# Altium footprint library 7621_cmp.PcbLib: 33 footprints (part 1 of 3)
Each footprint in its own frame and in the unit in brackets; x right, y up, seen from the top. Pads: shape width x height; smd on the part's side, far side on the other; paste and mask are expansions set on the pad; w line width, h text height; cw(c..) or ccw(c..) is an arc to the next point about the centre after c.
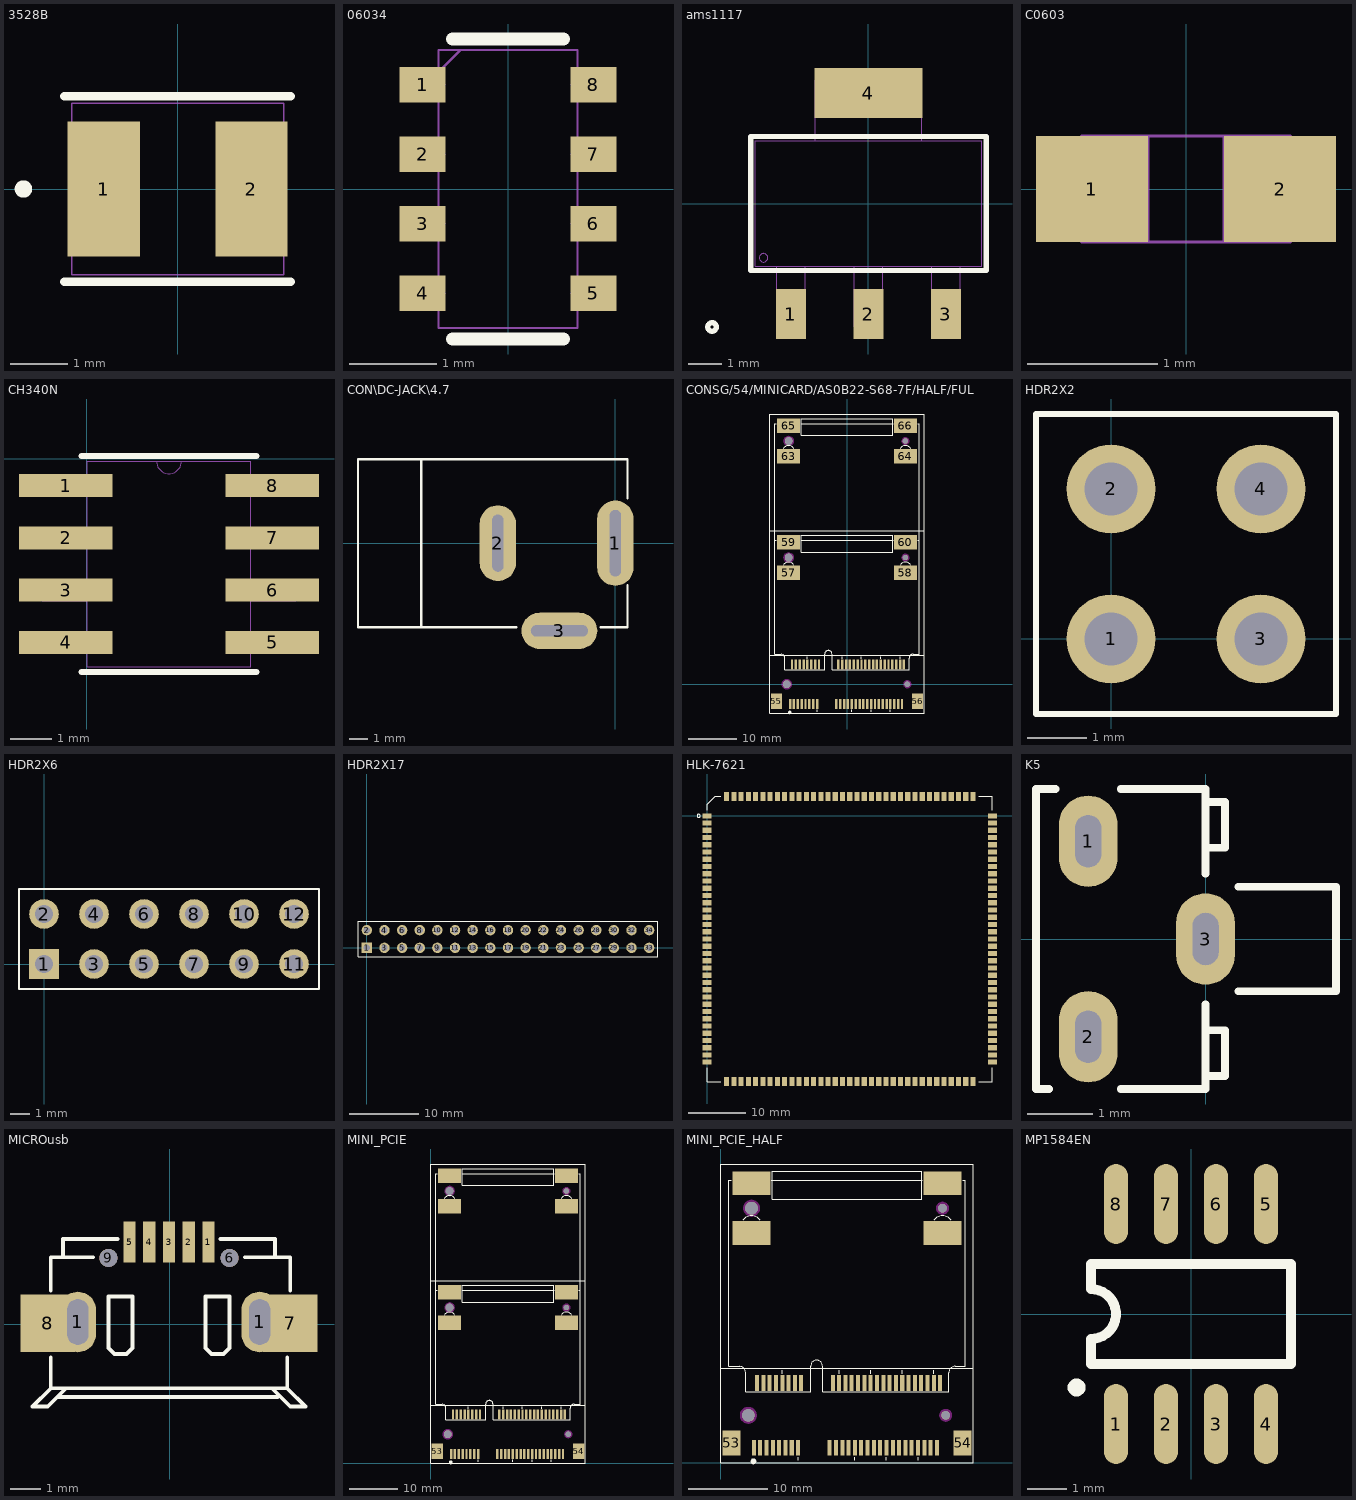
[diagram p0: the footprints below, top view; thin cyan lines are the x and y axes]

## 3528B [mm]
pads (2):
  rect 1.262x2.363 smd paste+0 mask+0: 1(-1.293,0) 2(1.293,0)
Top Overlay:
  circle w0.152: c-2.7,0 r0.076
  lines w0.152: -1.981,-1.626 1.981,-1.626 ; -1.981,1.626 1.981,1.626
Mechanical 13:
  circle w0: c-1.6,0 r0.076
  lines w0.025: -1.854,-1.499 1.854,-1.499 1.854,1.499 -1.854,1.499 -1.854,-1.499
3D body: height 0.25, standoff 0, extent 0,0 0.254,0.254

## 06034 [mm]
pads (8):
  rect 0.532x0.408 smd paste+0 mask+0: 1(-0.984,1.2) 2(-0.984,0.4) 3(-0.984,-0.4) 4(-0.984,-1.2) 5(0.984,-1.2) 6(0.984,-0.4) 7(0.984,0.4) 8(0.984,1.2)
Top Overlay:
  lines w0.152: -0.639,-1.727 0.639,-1.727 ; -0.639,1.727 0.639,1.727
Mechanical 13:
  lines w0: -0.8,-1.276 ccw(c-0.8,-1.2) -0.8,-1.124 ; -0.8,-0.476 ccw(c-0.8,-0.4) -0.8,-0.324 ; -0.8,0.324 ccw(c-0.8,0.4) -0.8,0.476 ; -0.8,1.124 ccw(c-0.8,1.2) -0.8,1.276 ; 0.8,-1.276 cw(c0.8,-1.2) 0.8,-1.124 ; 0.8,-0.476 cw(c0.8,-0.4) 0.8,-0.324 ; 0.8,0.324 cw(c0.8,0.4) 0.8,0.476 ; 0.8,1.124 cw(c0.8,1.2) 0.8,1.276
  lines w0.025: -0.8,-1.276 -0.8,-1.6 0.8,-1.6 0.8,-1.276 ; -0.8,-1.124 -0.8,-0.476 ; -0.8,-0.324 -0.8,0.324 ; -0.8,0.476 -0.8,1.124 ; -0.8,1.276 -0.8,1.6 0.8,1.6 0.8,1.276 ; -0.8,1.346 -0.546,1.6 ; 0.8,-1.124 0.8,-0.476 ; 0.8,-0.324 0.8,0.324 ; 0.8,0.476 0.8,1.124
3D body: height 0.25, standoff 0, extent 0,0 0.254,0.254

## ams1117 [mil]
pads (4):
  rect 35x58 smd paste+0 mask+0: 1(-90.16,-128.5) 2(0,-128.5) 3(90.16,-128.5)
  rect 126x58 smd paste+0 mask+0: 4(0,128.5)
Top Overlay:
  circle w6: c-182,-143.5 r5
  lines w6: -137,-78 -137,78 137,78 137,-78 -137,-78
Mechanical 13:
  circle w0: c-122,-63 r5
  lines w1: -132,-73 -132,73 132,73 132,-73 -132,-73 ; -106.66,-143.5 -73.66,-143.5 -73.66,-73 -106.66,-73 -106.66,-143.5 ; -62,73 -62,143.5 62,143.5 62,73 -62,73 ; -16.5,-143.5 16.5,-143.5 16.5,-73 -16.5,-73 -16.5,-143.5 ; 73.66,-143.5 106.66,-143.5 106.66,-73 73.66,-73 73.66,-143.5
3D body: height 10, standoff 0, extent 0,0 10,10

## C0603 [mil]
pads (2):
  rect 33.78x32 smd paste+0 mask+0: 1(-28.39,0) 2(28.39,0)
Mechanical 13:
  circle w0: c-23.39,0 r3
  lines w1: -31.5,-16 -31.5,16 ; -31.5,-16 31.5,-16 ; -31.5,-16 -11.5,-16 -11.5,16 -31.5,16 ; -31.5,-16 -31.5,16 ; -31.5,16 31.5,16 ; 31.5,-16 31.5,16 ; 31.5,-16 31.5,16 ; 31.5,-16 11.5,-16 11.5,16 31.5,16
3D body: height 10, standoff 0, extent 0,0 10,10

## CH340N [mm]
pads (8):
  rect 2.27x0.558 smd paste+0 mask+0: 1(-0.516,-0.66) 2(-0.516,-1.93) 3(-0.516,-3.2) 4(-0.516,-4.47) 5(4.512,-4.47) 6(4.512,-3.2) 7(4.512,-1.93) 8(4.512,-0.66)
Top Overlay:
  lines w0.152: -0.123,-5.194 4.119,-5.194 ; -0.123,0.064 4.119,0.064
Mechanical 13:
  lines w0: 1.693,-0.063 ccw(c1.998,-0.063) 2.303,-0.063
  lines w0.025: -1.101,-4.724 0.004,-4.724 0.004,-4.216 -1.101,-4.216 -1.101,-4.724 ; -1.101,-3.454 0.004,-3.454 0.004,-2.946 -1.101,-2.946 -1.101,-3.454 ; -1.101,-2.184 0.004,-2.184 0.004,-1.676 -1.101,-1.676 -1.101,-2.184 ; -1.101,-0.914 0.004,-0.914 0.004,-0.406 -1.101,-0.406 -1.101,-0.914 ; 0.004,-5.067 0.004,-0.063 3.992,-0.063 3.992,-5.067 0.004,-5.067 ; 3.992,-4.724 5.097,-4.724 5.097,-4.216 3.992,-4.216 3.992,-4.724 ; 3.992,-3.454 5.097,-3.454 5.097,-2.946 3.992,-2.946 3.992,-3.454 ; 3.992,-2.184 5.097,-2.184 5.097,-1.676 3.992,-1.676 3.992,-2.184 ; 3.992,-0.914 5.097,-0.914 5.097,-0.406 3.992,-0.406 3.992,-0.914
3D body: height 0.25, standoff 0, extent 1.998,-2.565 2.252,-2.311

## CON\DC-JACK\4.7 [mm]
pads (3):
  oval 1.956x4.572 hole 0.6 slot 3.556 at 90 deg: 1(0,0)
  oval 1.956x4.064 hole 0.6 slot 3.048 at 90 deg: 2(-6.3,0)
  oval 4.064x1.956 hole 0.6 slot 3.048 at 0 deg: 3(-3,-4.7)
Top Overlay:
  lines w0.127: -10.4,-4.5 -10.4,4.5 ; -5.3,-4.5 -13.8,-4.5 -13.8,4.5 0.65,4.5 0.65,2.4 ; -0.8,-4.5 0.65,-4.5 0.65,-2.25

## CONSG/54/MINICARD/AS0B22-S68-7F/HALF/FUL [mm]
pads (68):
  rect 0.508x2 smd: 1(-11.8,-4.1) 2(-11.4,4.1) 3(-11,-4.1) 4(-10.6,4.1) 5(-10.2,-4.1) 6(-9.8,4.1) 7(-9.4,-4.1) 8(-9,4.1) 9(-8.6,-4.1) 10(-8.2,4.1) 11(-7.8,-4.1) 12(-7.4,4.1) 13(-7,-4.1) 14(-6.6,4.1) 15(-6.2,-4.1) 16(-5.8,4.1) 17(-2.2,-4.1) 18(-1.8,4.1) 19(-1.4,-4.1) 20(-1,4.1) 21(-0.6,-4.1) 22(-0.2,4.1) 23(0.2,-4.1) 24(0.6,4.1) 25(1,-4.1) 26(1.4,4.1) 27(1.8,-4.1) 28(2.2,4.1) 29(2.6,-4.1) 30(3,4.1) 31(3.4,-4.1) 32(3.8,4.1) 33(4.2,-4.1) 34(4.6,4.1) 35(5,-4.1) 36(5.4,4.1) 37(5.8,-4.1) 38(6.2,4.1) 39(6.6,-4.1) 40(7,4.1) 41(7.4,-4.1) 42(7.8,4.1) 43(8.2,-4.1) 44(8.6,4.1) 45(9,-4.1) 46(9.4,4.1) 47(9.8,-4.1) 48(10.2,4.1) 49(10.6,-4.1) 50(11,4.1) 51(11.4,-4.1) 52(11.8,4.1)
  round 1.6 hole 1.6 unplated: 53(-12.5,0) 61(-12.1,26.25) 67(-12.1,50.4)
  round 1.1 hole 1.1 unplated: 54(12.5,0) 62(12.1,26.25) 68(12.1,50.4)
  rect 2.3x3.2 smd: 55(-14.65,-3.5) 56(14.65,-3.5)
  rect 4.8x3 smd: 57(-12.1,23.1) 58(12.1,23.1) 59(-12.1,29.4) 60(12.1,29.4) 63(-12.1,47.25) 64(12.1,47.25) 65(-12.1,53.55) 66(12.1,53.55)
Top Overlay:
  region: -11.51,-5.817 -11.536,-5.682 -11.613,-5.568 -11.727,-5.491 -11.862,-5.464 -11.997,-5.491 -12.111,-5.568 -12.187,-5.682 -12.214,-5.817 -12.187,-5.951 -12.111,-6.066 -11.997,-6.142 -11.862,-6.169 -11.727,-6.142 -11.613,-6.066 -11.536,-5.951
  lines w0.127: -14.65,29.8 -15,29.8 -15,6.2 ; -14.65,53.95 -15,53.95 -15,6.2 ; -13.2,24.7 cw(c-12.1,23.992) -11,24.7 ; -13.2,48.85 cw(c-12.1,48.142) -11,48.85 ; -9.6,29.8 9.55,29.8 ; -9.6,53.95 9.55,53.95 ; -8.2,5.3 -8.2,5.7 ; -6.2,-5.7 -6.2,-5.3 ; -1,5.3 -1,5.7 ; 1,-5.7 1,-5.3 ; 3,5.3 3,5.7 ; 5,-5.7 5,-5.3 ; 7,5.3 7,5.7 ; 9,-5.7 9,-5.3 ; 11,5.3 11,5.7 ; 11,24.7 cw(c12.1,23.992) 13.2,24.7 ; 11,48.85 cw(c12.1,48.142) 13.2,48.85 ; 14.65,29.8 15,29.8 15,6.2 ; 14.65,53.95 15,53.95 15,6.2 ; -16,-6 -16,6 ; -16,-6 16,-6 ; -16,-6 -16,56 16,56 16,-6 ; -16,-6 16,-6 ; -16,-6 -16,31.85 16,31.85 16,-6 ; -16,-6 16,-6 ; -16,-6 -16,6 ; -16,-6 16,-6 ; -16,6 16,6 ; -16,6 16,6 ; -15,6.2 -13.61,6.2 ; -15,6.2 -13.61,6.2 ; -13.611,6.2 cw(c-13.637,5.413) -12.85,5.45 ; -13.611,6.2 cw(c-13.637,5.413) -12.85,5.45 ; -12.85,3 -4.6,3 ; -12.85,3 -12.85,5.45 ; -12.85,3 -4.6,3 ; -12.85,3 -12.85,5.45 ; -4.6,3 -4.6,6.25 ; -4.6,3 -4.6,6.25 ; -4.6,6.25 cw(c-3.85,6.25) -3.1,6.25 ; -4.6,6.25 cw(c-3.85,6.25) -3.1,6.25 ; -3.1,3 12.9,3 ; -3.1,3 -3.1,6.25 ; -3.1,3 12.9,3 ; -3.1,3 -3.1,6.25 ; 12.9,3 12.9,5.4 ; 12.9,3 12.9,5.4 ; 12.9,5.4 cw(c13.669,5.432) 13.71,6.2 ; 12.9,5.4 cw(c13.669,5.432) 13.71,6.2 ; 13.71,6.2 15,6.2 ; 13.71,6.2 15,6.2 ; 16,-6 16,6 ; 16,-6 16,6 ; -9.5,27.4 -9.5,30.9 9.5,30.9 9.5,27.4 -9.5,27.4 ; -9.5,51.55 -9.5,55.05 9.5,55.05 9.5,51.55 -9.5,51.55
Keep-Out Layer:
  drawing of 6 lines, arcs and shapes, not listed

## HDR2X2 [mm] "Connector; Header; 2x2 Position"
height 1
pads (4):
  round 1.5 hole 0.9: 1(0,0) 2(0,2.54) 3(2.54,0) 4(2.54,2.54)
Top Overlay:
  lines w0.1: -1.27,-1.27 -1.27,3.81 3.81,3.81 3.81,-1.27 -1.27,-1.27

## HDR2X6 [mm] "Connector; Header; 6x2 Position"
pads (12):
  rect 1.5x1.5 hole 0.9: 1(0,0)
  round 1.5 hole 0.9: 2(0,2.54) 3(2.54,0) 4(2.54,2.54) 5(5.08,0) 6(5.08,2.54) 7(7.62,0) 8(7.62,2.54) 9(10.16,0) 10(10.16,2.54) 11(12.7,0) 12(12.7,2.54)
Top Overlay:
  lines w0.1: -1.27,-1.27 -1.27,3.81 13.97,3.81 13.97,-1.27 -1.27,-1.27

## HDR2X17 [mm] "Connector; Header; 17x2 Position"
height 1
pads (34):
  rect 1.5x1.5 hole 0.9: 1(0,0)
  round 1.5 hole 0.9: 2(0,2.54) 3(2.54,0) 4(2.54,2.54) 5(5.08,0) 6(5.08,2.54) 7(7.62,0) 8(7.62,2.54) 9(10.16,0) 10(10.16,2.54) 11(12.7,0) 12(12.7,2.54) 13(15.24,0) 14(15.24,2.54) 15(17.78,0) 16(17.78,2.54) 17(20.32,0) 18(20.32,2.54) 19(22.86,0) 20(22.86,2.54) 21(25.4,0) 22(25.4,2.54) 23(27.94,0) 24(27.94,2.54) 25(30.48,0) 26(30.48,2.54) 27(33.02,0) 28(33.02,2.54) 29(35.56,0) 30(35.56,2.54) 31(38.1,0) 32(38.1,2.54) 33(40.64,0) 34(40.64,2.54)
Top Overlay:
  lines w0.1: -1.27,-1.27 -1.27,3.81 41.91,3.81 41.91,-1.27 -1.27,-1.27

## HLK-7621 [mm]
height 1
pads (141):
  rect 1.6x0.9 smd: 1(0,0) 2(0,-1.27) 3(0,-2.54) 4(0,-3.81) 5(0,-5.08) 6(0,-6.35) 7(0,-7.62) 8(0,-8.89) 9(0,-10.16) 10(0,-11.43) 11(0,-12.7) 12(0,-13.97) 13(0,-15.24) 14(0,-16.51) 15(0,-17.78) 16(0,-19.05) 17(0,-20.32) 18(0,-21.59) 19(0,-22.86) 20(0,-24.13) 21(0,-25.4) 22(0,-26.67) 23(0,-27.94) 24(0,-29.21) 25(0,-30.48) 26(0,-31.75) 27(0,-33.02) 28(0,-34.29) 29(0,-35.56) 30(0,-36.83) 31(0,-38.1) 32(0,-39.37) 33(0,-40.64) 34(0,-41.91) 35(0,-43.18) 71(50,-43.18) 72(50,-41.91) 73(50,-40.64) 74(50,-39.37) 75(50,-38.1) 76(50,-36.83) 77(50,-35.56) 78(50,-34.29) 79(50,-33.02) 80(50,-31.75) 81(50,-30.48) 82(50,-29.21) 83(50,-27.94) 84(50,-26.67) 85(50,-25.4) 86(50,-24.13) 87(50,-22.86) 88(50,-21.59) 89(50,-20.32) 90(50,-19.05) 91(50,-17.78) 92(50,-16.51) 93(50,-15.24) 94(50,-13.97) 95(50,-12.7) 96(50,-11.43) 97(50,-10.16) 98(50,-8.89) 99(50,-7.62) 100(50,-6.35) 101(50,-5.08) 102(50,-3.81) 103(50,-2.54) 104(50,-1.27) 105(50,0)
  rect 0.9x1.6 smd: 36(3.41,-46.59) 37(4.68,-46.59) 38(5.95,-46.59) 39(7.22,-46.59) 40(8.49,-46.59) 41(9.76,-46.59) 42(11.03,-46.59) 43(12.3,-46.59) 44(13.57,-46.59) 45(14.84,-46.59) 46(16.11,-46.59) 47(17.38,-46.59) 48(18.65,-46.59) 49(19.92,-46.59) 50(21.19,-46.59) 51(22.46,-46.59) 52(23.73,-46.59) 53(25,-46.59) 54(26.27,-46.59) 55(27.54,-46.59) 56(28.81,-46.59) 56(28.81,-46.59) 57(30.08,-46.59) 58(31.35,-46.59) 59(32.62,-46.59) 60(33.89,-46.59) 61(35.16,-46.59) 62(36.43,-46.59) 63(37.7,-46.59) 64(38.97,-46.59) 65(40.24,-46.59) 66(41.51,-46.59) 67(42.78,-46.59) 68(44.05,-46.59) 69(45.32,-46.59) 70(46.59,-46.59) 106(46.59,3.41) 107(45.32,3.41) 108(44.05,3.41) 109(42.78,3.41) 110(41.51,3.41) 111(40.24,3.41) 112(38.97,3.41) 113(37.7,3.41) 114(36.43,3.41) 115(35.16,3.41) 116(33.89,3.41) 117(32.62,3.41) 118(31.35,3.41) 119(30.08,3.41) 120(28.81,3.41) 121(27.54,3.41) 122(26.27,3.41) 123(25,3.41) 124(23.73,3.41) 125(22.46,3.41) 126(21.19,3.41) 127(19.92,3.41) 128(18.65,3.41) 129(17.38,3.41) 130(16.11,3.41) 131(14.84,3.41) 132(13.57,3.41) 133(12.3,3.41) 134(11.03,3.41) 135(9.76,3.41) 136(8.49,3.41) 137(7.22,3.41) 138(5.95,3.41) 139(4.68,3.41) 140(3.41,3.41)
Top Overlay:
  circle w0.15: c-1.5,0 r0.283
  lines w0.15: 0,-44.18 0,-46.59 2.41,-46.59 ; 0,1 0,2 1.41,3.41 2.41,3.41 ; 47.59,-46.59 50,-46.59 50,-44.18 ; 47.59,3.41 50,3.41 50,1

## K5 [mm]
pads (3):
  oval 0.9x1.4 hole 0.4 slot 0.8 at 90 deg: 1(-1.8,1.5) 2(-1.8,-1.5) 3(0,0)
Top Overlay:
  lines w0.12: -2.4,-2.3 -2.6,-2.3 -2.6,2.3 -2.3,2.3 ; -1.3,-2.3 0,-2.3 0,-1 ; -1.3,2.3 0,2.3 0,1 ; 0,-2.1 0.3,-2.1 0.3,-1.4 0,-1.4 ; 0,1.4 0.3,1.4 0.3,2.1 0,2.1 ; 0.5,-0.8 2,-0.8 2,0.8 0.5,0.8

## MICROusb [mm]
pads (11):
  oval 1.2x2 hole 0.7 slot 1.5 at 90 deg: 1(-3.028,0.081) 1(2.972,0.081)
  rect 0.4x1.35 smd: 1(1.28,2.719) 2(0.63,2.719) 3(-0.02,2.719) 4(-0.67,2.719) 5(-1.32,2.719)
  round 0.6 hole 0.6: 6(1.98,2.194) 9(-2.02,2.194)
  rect 1.8x1.9 smd: 7(3.98,0.044) 8(-4.02,0.044)
Top Overlay:
  lines w0.127: -3.92,-1.081 -3.92,-2.106 ; -3.92,1.119 -3.92,2.219 -2.52,2.219 ; -3.704,-2.391 3.571,-2.391 ; -3.52,2.219 -3.52,2.819 -1.72,2.819 ; -3.42,-2.106 -4.02,-2.706 -4.52,-2.706 -3.92,-2.106 ; 1.68,2.819 3.48,2.819 3.48,2.219 ; 2.48,2.219 3.98,2.219 3.98,1.119 ; 3.38,-2.106 3.98,-2.706 4.48,-2.706 3.88,-2.106 ; 3.88,-1.081 3.88,-2.106 ; -3.92,-2.106 3.88,-2.106 ; -2.02,-0.781 -1.82,-0.981 -1.42,-0.981 -1.22,-0.781 -1.22,0.919 -2.02,0.919 -2.02,-0.781 ; 1.18,-0.781 1.18,0.919 1.98,0.919 1.98,-0.781 1.78,-0.981 1.38,-0.981 1.18,-0.781

## MINI_PCIE [mm]
pads (68):
  rect 0.508x2 smd: 1(4.2,1.9) 2(4.6,10.1) 3(5,1.9) 4(5.4,10.1) 5(5.8,1.9) 6(6.2,10.1) 7(6.6,1.9) 8(7,10.1) 9(7.4,1.9) 10(7.8,10.1) 11(8.2,1.9) 12(8.6,10.1) 13(9,1.9) 14(9.4,10.1) 15(9.8,1.9) 16(10.2,10.1) 17(13.8,1.9) 18(14.2,10.1) 19(14.6,1.9) 20(15,10.1) 21(15.4,1.9) 22(15.8,10.1) 23(16.2,1.9) 24(16.6,10.1) 25(17,1.9) 26(17.4,10.1) 27(17.8,1.9) 28(18.2,10.1) 29(18.6,1.9) 30(19,10.1) 31(19.4,1.9) 32(19.8,10.1) 33(20.2,1.9) 34(20.6,10.1) 35(21,1.9) 36(21.4,10.1) 37(21.8,1.9) 38(22.2,10.1) 39(22.6,1.9) 40(23,10.1) 41(23.4,1.9) 42(23.8,10.1) 43(24.2,1.9) 44(24.6,10.1) 45(25,1.9) 46(25.4,10.1) 47(25.8,1.9) 48(26.2,10.1) 49(26.6,1.9) 50(27,10.1) 51(27.4,1.9) 52(27.8,10.1)
  rect 2.3x3.2 smd: 53(1.35,2.5) 54(30.65,2.5)
  round 1.6 hole 1.6 unplated: ""(3.5,6) ""(3.9,32.25) ""(3.9,56.4)
  rect 4.8x3 smd: ""(3.9,29.1) ""(3.9,35.4) ""(3.9,53.25) ""(3.9,59.55) ""(28.1,29.1) ""(28.1,35.4) ""(28.1,53.25) ""(28.1,59.55)
  round 1.1 hole 1.1 unplated: ""(28.1,32.25) ""(28.1,56.4) ""(28.5,6)
Top Overlay:
  region: 4.484,0.183 4.484,0.252 4.431,0.379 4.334,0.476 4.207,0.529 4.138,0.529 4.069,0.529 3.943,0.476 3.845,0.379 3.793,0.252 3.793,0.183 3.793,0.115 3.845,-0.012 3.943,-0.109 4.069,-0.162 4.138,-0.162 4.207,-0.162 4.334,-0.109 4.431,-0.012 4.484,0.115
  lines w0.127: 1.35,35.8 1,35.8 1,12.2 ; 1.35,59.95 1,59.95 1,12.2 ; 2.8,30.7 cw(c3.9,29.992) 5,30.7 ; 2.8,54.85 cw(c3.9,54.142) 5,54.85 ; 6.4,35.8 25.55,35.8 ; 6.4,59.95 25.55,59.95 ; 7.8,11.3 7.8,11.7 ; 9.8,0.3 9.8,0.7 ; 15,11.3 15,11.7 ; 17,0.3 17,0.7 ; 19,11.3 19,11.7 ; 21,0.3 21,0.7 ; 23,11.3 23,11.7 ; 25,0.3 25,0.7 ; 27,11.3 27,11.7 ; 27,30.7 cw(c28.1,29.992) 29.2,30.7 ; 27,54.85 cw(c28.1,54.142) 29.2,54.85 ; 30.65,35.8 31,35.8 31,12.2 ; 30.65,59.95 31,59.95 31,12.2 ; 0,0 32,0 ; 0,0 0,12 ; 0,0 32,0 ; 0,0 0,37.85 32,37.85 32,0 ; 0,0 32,0 ; 0,0 0,62 32,62 32,0 ; 0,0 32,0 ; 0,0 0,12 ; 0,12 32,12 ; 0,12 32,12 ; 1,12.2 2.39,12.2 1,12.2 ; 3.15,9 3.15,11.45 ; 3.15,9 11.4,9 ; 3.15,9 3.15,11.45 ; 3.15,9 11.4,9 ; 3.15,11.45 ccw(c2.363,11.413) 2.389,12.2 cw(c2.363,11.413) 3.15,11.45 ; 11.4,9 11.4,12.25 ; 11.4,9 11.4,12.25 ; 11.4,12.25 cw(c12.15,12.25) 12.9,12.25 ; 11.4,12.25 cw(c12.15,12.25) 12.9,12.25 ; 12.9,9 12.9,12.25 ; 12.9,9 28.9,9 ; 12.9,9 12.9,12.25 ; 12.9,9 28.9,9 ; 28.9,9 28.9,11.4 ; 28.9,9 28.9,11.4 ; 28.9,11.4 cw(c29.669,11.432) 29.71,12.2 ; 28.9,11.4 cw(c29.669,11.432) 29.71,12.2 ; 29.71,12.2 31,12.2 ; 29.71,12.2 31,12.2 ; 32,0 32,12 ; 32,0 32,12 ; 6.5,33.4 25.5,33.4 25.5,36.9 6.5,36.9 6.5,33.4 ; 6.5,57.55 25.5,57.55 25.5,61.05 6.5,61.05 6.5,57.55
Keep-Out Layer:
  drawing of 6 lines, arcs and shapes, not listed

## MINI_PCIE_HALF [mm]
pads (62):
  rect 0.508x2 smd: 1(4.2,1.9) 2(4.6,10.1) 3(5,1.9) 4(5.4,10.1) 5(5.8,1.9) 6(6.2,10.1) 7(6.6,1.9) 8(7,10.1) 9(7.4,1.9) 10(7.8,10.1) 11(8.2,1.9) 12(8.6,10.1) 13(9,1.9) 14(9.4,10.1) 15(9.8,1.9) 16(10.2,10.1) 17(13.8,1.9) 18(14.2,10.1) 19(14.6,1.9) 20(15,10.1) 21(15.4,1.9) 22(15.8,10.1) 23(16.2,1.9) 24(16.6,10.1) 25(17,1.9) 26(17.4,10.1) 27(17.8,1.9) 28(18.2,10.1) 29(18.6,1.9) 30(19,10.1) 31(19.4,1.9) 32(19.8,10.1) 33(20.2,1.9) 34(20.6,10.1) 35(21,1.9) 36(21.4,10.1) 37(21.8,1.9) 38(22.2,10.1) 39(22.6,1.9) 40(23,10.1) 41(23.4,1.9) 42(23.8,10.1) 43(24.2,1.9) 44(24.6,10.1) 45(25,1.9) 46(25.4,10.1) 47(25.8,1.9) 48(26.2,10.1) 49(26.6,1.9) 50(27,10.1) 51(27.4,1.9) 52(27.8,10.1)
  rect 2.3x3.2 smd: 53(1.35,2.5) 54(30.65,2.5)
  round 1.6 hole 1.6 unplated: ""(3.5,6) ""(3.9,32.25)
  rect 4.8x3 smd: ""(3.9,29.1) ""(3.9,35.4) ""(28.1,29.1) ""(28.1,35.4)
  round 1.1 hole 1.1 unplated: ""(28.1,32.25) ""(28.5,6)
Top Overlay:
  region: 4.484,0.183 4.484,0.252 4.431,0.379 4.334,0.476 4.207,0.529 4.138,0.529 4.069,0.529 3.943,0.476 3.845,0.379 3.793,0.252 3.793,0.183 3.793,0.115 3.845,-0.012 3.943,-0.109 4.069,-0.162 4.138,-0.162 4.207,-0.162 4.334,-0.109 4.431,-0.012 4.484,0.115
  lines w0.127: 1.35,35.8 1,35.8 1,12.2 ; 2.8,30.7 cw(c3.9,29.992) 5,30.7 ; 6.4,35.8 25.55,35.8 ; 7.8,11.3 7.8,11.7 ; 9.8,0.3 9.8,0.7 ; 15,11.3 15,11.7 ; 17,0.3 17,0.7 ; 19,11.3 19,11.7 ; 21,0.3 21,0.7 ; 23,11.3 23,11.7 ; 25,0.3 25,0.7 ; 27,11.3 27,11.7 ; 27,30.7 cw(c28.1,29.992) 29.2,30.7 ; 30.65,35.8 31,35.8 31,12.2 ; 0,0 0,12 ; 0,0 32,0 ; 0,0 32,0 ; 0,0 0,37.85 32,37.85 32,0 ; 0,0 32,0 ; 0,0 0,12 ; 0,0 32,0 ; 0,12 32,12 ; 0,12 32,12 ; 1,12.2 2.39,12.2 1,12.2 ; 3.15,9 11.4,9 ; 3.15,9 3.15,11.45 ; 3.15,9 11.4,9 ; 3.15,9 3.15,11.45 ; 3.15,11.45 ccw(c2.363,11.413) 2.389,12.2 cw(c2.363,11.413) 3.15,11.45 ; 11.4,9 11.4,12.25 ; 11.4,9 11.4,12.25 ; 11.4,12.25 cw(c12.15,12.25) 12.9,12.25 ; 11.4,12.25 cw(c12.15,12.25) 12.9,12.25 ; 12.9,9 28.9,9 ; 12.9,9 12.9,12.25 ; 12.9,9 28.9,9 ; 12.9,9 12.9,12.25 ; 28.9,9 28.9,11.4 ; 28.9,9 28.9,11.4 ; 28.9,11.4 cw(c29.669,11.432) 29.71,12.2 ; 28.9,11.4 cw(c29.669,11.432) 29.71,12.2 ; 29.71,12.2 31,12.2 ; 29.71,12.2 31,12.2 ; 32,0 32,12 ; 32,0 32,12 ; 6.5,33.4 6.5,36.9 25.5,36.9 25.5,33.4 6.5,33.4
Keep-Out Layer:
  pour cut-out: 29.304,6 29.304,6.079 29.273,6.235 29.212,6.381 29.125,6.513 29.013,6.625 28.881,6.712 28.735,6.773 28.579,6.804 28.5,6.804 28.421,6.804 28.265,6.773 28.119,6.712 27.987,6.625 27.875,6.513 27.788,6.381 27.727,6.235 27.696,6.079 27.696,6 27.696,5.921 27.727,5.765 27.788,5.619 27.875,5.487 27.987,5.375 28.119,5.288 28.265,5.227 28.421,5.196 28.5,5.196 28.579,5.196 28.735,5.227 28.881,5.288 29.013,5.375 29.125,5.487 29.212,5.619 29.273,5.765 29.304,5.921
  pour cut-out: 4.554,6 4.554,6.104 4.513,6.307 4.434,6.499 4.319,6.672 4.172,6.819 3.999,6.934 3.807,7.013 3.604,7.054 3.5,7.054 3.396,7.054 3.193,7.013 3.001,6.934 2.828,6.819 2.681,6.672 2.566,6.499 2.487,6.307 2.446,6.104 2.446,6 2.446,5.896 2.487,5.693 2.566,5.501 2.681,5.328 2.828,5.181 3.001,5.066 3.193,4.987 3.396,4.946 3.5,4.946 3.604,4.946 3.807,4.987 3.999,5.066 4.172,5.181 4.319,5.328 4.434,5.501 4.513,5.693 4.554,5.896
  pour cut-out: 28.904,32.25 28.904,32.329 28.873,32.485 28.812,32.631 28.725,32.763 28.613,32.875 28.481,32.962 28.335,33.023 28.179,33.054 28.1,33.054 28.021,33.054 27.865,33.023 27.719,32.962 27.587,32.875 27.475,32.763 27.388,32.631 27.327,32.485 27.296,32.329 27.296,32.25 27.296,32.171 27.327,32.015 27.388,31.869 27.475,31.737 27.587,31.625 27.719,31.538 27.865,31.477 28.021,31.446 28.1,31.446 28.179,31.446 28.335,31.477 28.481,31.538 28.613,31.625 28.725,31.737 28.812,31.869 28.873,32.015 28.904,32.171
  pour cut-out: 4.954,32.25 4.954,32.354 4.913,32.557 4.834,32.749 4.719,32.922 4.572,33.069 4.399,33.184 4.207,33.263 4.004,33.304 3.9,33.304 3.796,33.304 3.593,33.263 3.401,33.184 3.228,33.069 3.081,32.922 2.966,32.749 2.887,32.557 2.846,32.354 2.846,32.25 2.846,32.146 2.887,31.943 2.966,31.751 3.081,31.578 3.228,31.431 3.401,31.316 3.593,31.237 3.796,31.196 3.9,31.196 4.004,31.196 4.207,31.237 4.399,31.316 4.572,31.431 4.719,31.578 4.834,31.751 4.913,31.943 4.954,32.146

## MP1584EN [mil]
height 78.35
pads (8):
  oval 24x80 smd: 1(-75,-110) 2(-25,-110) 3(25,-110) 4(75,-110) 5(75,110) 6(25,110) 7(-25,110) 8(-75,110)
Top Overlay:
  circle w10: c-114.46,-73.5 r3.94
  lines w10: -100,-50 -100,-25 ccw(c-100,0) -100,25 -100,50 100,50 100,-50 -100,-50
3D body "SOP8.step": height 67, standoff 0, extent -95.01,-118 94.99,118